# Altium footprint library Radiator_26х92х280_ТО-264х12.PcbLib: 1 footprints
Each footprint in its own frame and in the unit in brackets; x right, y up, seen from the top. Pads: shape width x height; smd on the part's side, far side on the other; paste and mask are expansions set on the pad; w line width, h text height; cw(c..) or ccw(c..) is an arc to the next point about the centre after c.
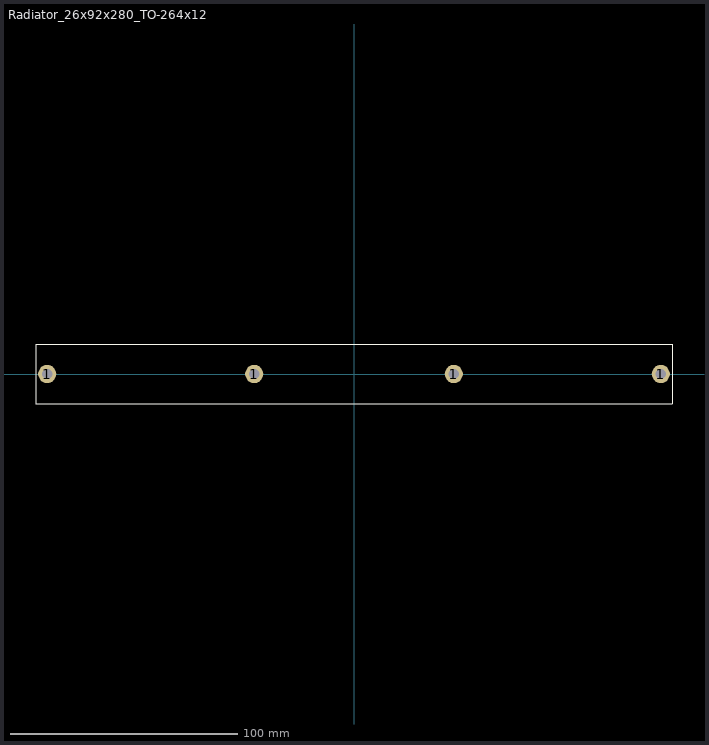
[diagram p0: the footprint, top view; thin cyan lines are the x and y axes]

## Radiator_26х92х280_ТО-264х12 [mm]
pads (4):
  round 8 hole 4.5: 1(-135,0) 1(-43.9,0) 1(43.9,0) 1(135,0)
Top Overlay:
  lines w0.254: -140,-13 140,-13 140,13 -140,13 -140,-13
3D body "Радиатор 26х92х280 с ТО-264х12.STEP": height 92.05, standoff -0.05, extent -140,-13 140,13